# EAGLE library part JS202011SCQN (library EE445L)
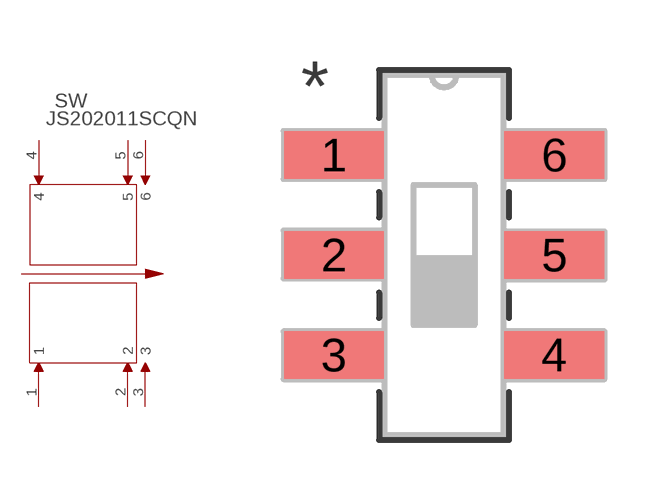
[diagram p48: symbol with the pads of SW_JS202011SCQN; footprint SW_JS202011SCQN]

Designator prefix SW

## JS202011SCQN (MANUFACTURER_PART_NUMBER: JS202011SCQN; VENDOR: C&K)  [SW_JS202011SCQN]
1  1  pas
2  2  pas
3  3  pas
4  4  pas
5  5  pas
6  6  pas

## Footprint SW_JS202011SCQN (pad centres in mm)
smd 2.489 x 1.194: 1 -2.756,2.5; 2 -2.756,0; 3 -2.756,-2.5; 4 2.756,-2.5; 5 2.756,0; 6 2.756,2.5